# EAGLE library part 61302625721 (library Eagle_BOARD-TO-BOARD_CONNECTORS (rev18b))
WR-PHD 2.54mm Dual Socket Header Bottom Entry, 26 Pins =>Code : Con_BTB_SHD_2.54_2_61302625721 <http://katalog.we-online.de/media/images/eican/Con_BTB_SHD_2.54_2_6130xx25721_pf2.jpg> Details see: http://katalog.we-online.de/en/em/613_0xx_257_21 Created 2014-05-30, Karrer Zheng 2014 (C) Würth Elektronik
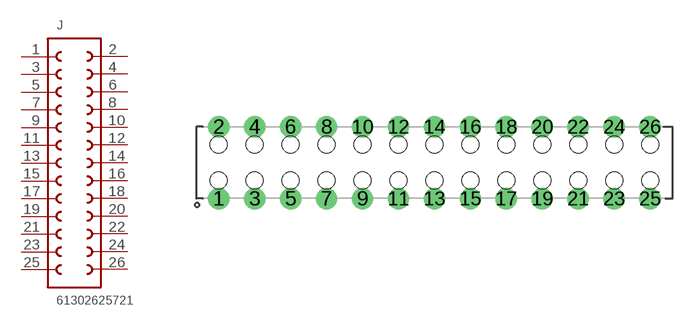
[diagram p159: symbol with the pads of 61302625721; footprint 61302625721]

Designator prefix J

## 61302625721  [61302625721]
1  1  pas
2  26  pas
3  2  pas
4  25  pas
5  3  pas
6  24  pas
7  4  pas
8  23  pas
9  5  pas
10  22  pas
11  6  pas
12  21  pas
13  7  pas
14  20  pas
15  8  pas
16  19  pas
17  9  pas
18  18  pas
19  10  pas
20  17  pas
21  11  pas
22  16  pas
23  12  pas
24  15  pas
25  13  pas
26  14  pas

## Footprint 61302625721 (pad centres in mm)
WR-PHD 2.54mm Dual Socket Header Bottom Entry, 26 Pins
drill 1 pad 1.4: 1 -15.24,-2.54; 2 -15.24,2.54; 3 -12.7,-2.54; 4 -12.7,2.54; 5 -10.16,-2.54; 6 -10.16,2.54; 7 -7.62,-2.54; 8 -7.62,2.54; 9 -5.08,-2.54; 10 -5.08,2.54; 11 -2.54,-2.54; 12 -2.54,2.54; 13 0,-2.54; 14 0,2.54; 15 2.54,-2.54; 16 2.54,2.54; 17 5.08,-2.54; 18 5.08,2.54; 19 7.62,-2.54; 20 7.62,2.54; 21 10.16,-2.54; 22 10.16,2.54; 23 12.7,-2.54; 24 12.7,2.54; 25 15.24,-2.54; 26 15.24,2.54
hole 1.2 at -15.24,1.27
hole 1.2 at -12.7,1.27
hole 1.2 at -12.7,-1.27
hole 1.2 at -15.24,-1.27
hole 1.2 at -10.16,-1.27
hole 1.2 at -10.16,1.27
hole 1.2 at -7.62,1.27
hole 1.2 at -7.62,-1.27
hole 1.2 at -5.08,1.27
hole 1.2 at -5.08,-1.27
hole 1.2 at -2.54,-1.27
hole 1.2 at -2.54,1.27
hole 1.2 at 0,1.27
hole 1.2 at 0,-1.27
hole 1.2 at 2.54,-1.27
hole 1.2 at 2.54,1.27
hole 1.2 at 5.08,-1.27
hole 1.2 at 5.08,1.27
hole 1.2 at 7.62,1.27
hole 1.2 at 7.62,-1.27
hole 1.2 at 10.16,-1.27
hole 1.2 at 10.16,1.27
hole 1.2 at 12.7,-1.27
hole 1.2 at 12.7,1.27
hole 1.2 at 15.24,-1.27
hole 1.2 at 15.24,1.27